# EAGLE library part TSL1402R (library 1dah)
256 pixel linear photodiode array
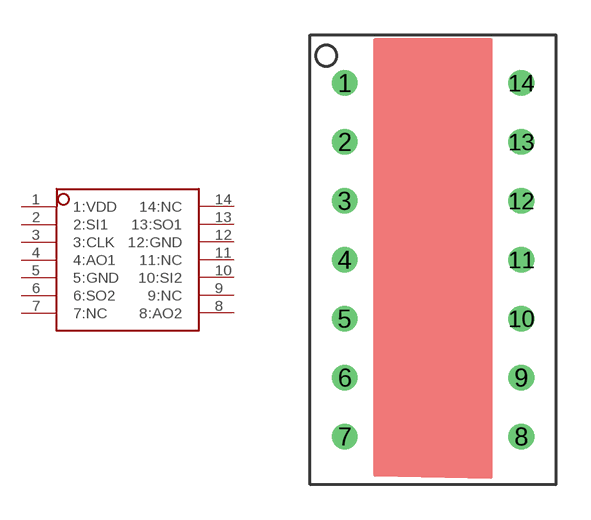
[diagram p46: symbol with the pads of TSL1402R; footprint TSL1402R]

Designator prefix -

## TSL1402R  [TSL1402R]
1  1:VDD
2  2:SI1
3  3:CLK
4  4:AO1
5  5:GND
6  6:SO2
7  7:NC
8  8:AO2
9  9:NC
10  10:SI2
11  11:NC
12  12:GND
13  13:SO1
14  14:NC

## Footprint TSL1402R (pad centres in mm)
drill 0.6: 1 -3.81,7.62; 2 -3.81,5.08; 3 -3.81,2.54; 4 -3.81,0; 5 -3.81,-2.54; 6 -3.81,-5.08; 7 -3.81,-7.62; 8 3.81,-7.62; 9 3.81,-5.08; 10 3.81,-2.54; 11 3.81,0; 12 3.81,2.54; 13 3.81,5.08; 14 3.81,7.62